# Altium footprint library Inductor.PcbLib: 2 footprints
Each footprint in its own frame and in the unit in brackets; x right, y up, seen from the top. Pads: shape width x height; smd on the part's side, far side on the other; paste and mask are expansions set on the pad; w line width, h text height; cw(c..) or ccw(c..) is an arc to the next point about the centre after c.
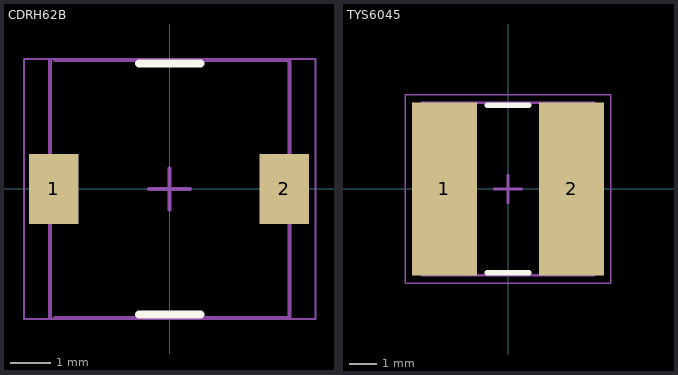
[diagram p0: the footprints below, top view; thin cyan lines are the x and y axes]

## CDRH62B [mm] "Sumida Power Inductor"
height 3
pads (2):
  rect 1.2x1.7 smd: 1(-2.828,0) 2(2.794,0)
Top Overlay:
  lines w0.2: -0.75,-3.06 0.75,-3.06 ; -0.75,3.06 0.75,3.06
Mechanical 13:
  lines w0.1: -2.921,-3.15 -2.921,3.15 ; -2.794,-3.15 2.921,-3.15 2.921,3.15 -2.794,3.15
Mechanical 15:
  lines w0.05: -3.556,-3.175 3.556,-3.175 3.556,3.175 -3.556,3.175 -3.556,-3.175
  lines w0.1: -0.5,0 0.5,0 ; 0,-0.5 0,0.5
3D body: height 3, standoff 0, extent 1.45,-3.15 2.921,3.15
3D body: height 3, standoff 0, extent -2.921,-3.15 -1.45,3.15
3D body: height 3, standoff 0, extent -1.45,-3.15 1.45,3.15

## TYS6045 [mm] "Chip Inductor, 2-Leads, Body 6.00x6.00mm, IPC Medium Density"
height 4.5
pads (2):
  rect 2.36x6.32 smd: 1(-2.32,0) 2(2.32,0)
Top Overlay:
  lines w0.2: -0.75,-3.06 0.75,-3.06 ; -0.75,3.06 0.75,3.06
Mechanical 13:
  lines w0.1: -3.15,-3.15 3.15,-3.15 3.15,3.15 -3.15,3.15 -3.15,-3.15
Mechanical 15:
  lines w0.05: -3.75,-3.45 3.75,-3.45 3.75,3.45 -3.75,3.45 -3.75,-3.45
  lines w0.1: -0.5,0 0.5,0 ; 0,-0.5 0,0.5
3D body: height 4.5, standoff 0, extent 1.45,-3.15 3.15,3.15
3D body: height 4.5, standoff 0, extent -3.15,-3.15 -1.45,3.15
3D body: height 4.5, standoff 0, extent -1.45,-3.15 1.45,3.15